# Altium schematic symbol library LDL1117.SchLib: 2 symbols
Pins are listed as number, name and electrical type; pins without a type are passive.

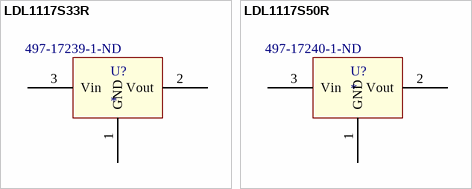
[diagram p0: symbols LDL1117S33R to LDL1117S50R]

## LDL1117S33R
designator U?  Supplier Part Number 1: 497-17239-1-ND
STMirco / IC REG LINEAR 5V 1.2A SOT223; Supplier 1: Digi-Key
footprint LDL1117 (SOT223, 4-Leads, Body 6.50x7.00mm (avg), Pitch 2.30mm, IPC Medium Density)
pins: 1 GND, 2 Vout, 3 Vin

## LDL1117S50R
designator U?  Supplier Part Number 1: 497-17240-1-ND
STMirco / IC REG LINEAR 5V 1.2A SOT223; Supplier 1: Digi-Key
footprint LDL1117 (SOT223, 4-Leads, Body 6.50x7.00mm (avg), Pitch 2.30mm, IPC Medium Density)
pins: 1 GND, 2 Vout, 3 Vin